# Altium schematic symbol library MySCH_Lib.SCHLIB: 47 symbols
Pins are listed as number, name and electrical type; pins without a type are passive.

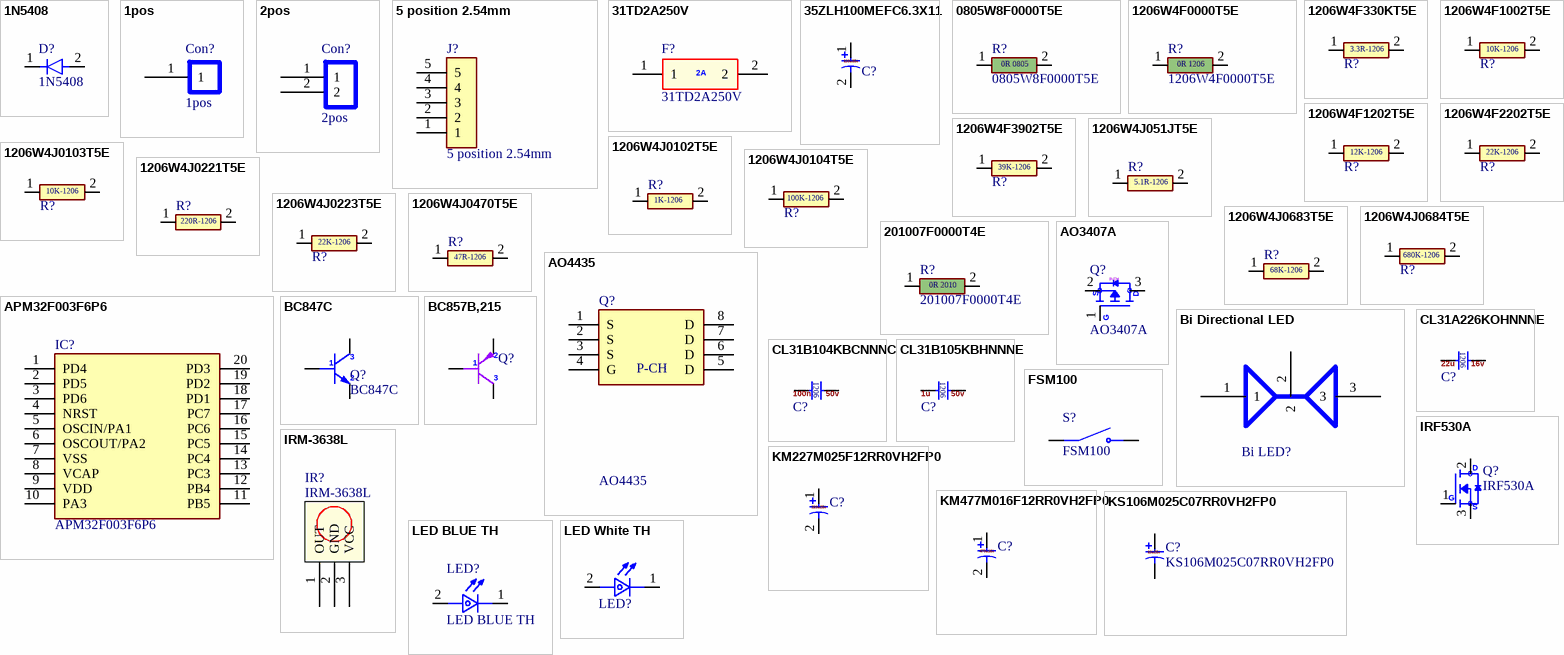
[diagram p0: symbols 1N5408 to LED White TH]

## 1N5408
designator D?
DIODE: GEN 3A 1.2V@3A 1kV DO-201AD TH; LCSC Part #: C36138; Unit Price: 0.0313
footprint DO-201AD TH
pins: 1, 2

## 1pos
designator Con?
footprint 1pos (Footprint not found)
footprint 1pos - thin
pins: 1

## 2pos
designator Con?
P2.54mm
footprint 2pos
pins: 1, 2

## 5 position 2.54mm
designator J?
MP: BG095-04-A-N-D; Package: None; Price: None; Value: *; Availability: Unavailable
footprint 5pos_2.54mm
pins: 1, 2, 3, 4, 5

## 31TD2A250V
designator F?
FUSE:  2A Plugin,3.6x10mm Disposable fuses ROHS; LCSC Part #: C529609; Unit Price: 0.0199
footprint Fuse FAN LS-15.8MM (31TD2A250V)
pins: 1, 2
text: 2A

## 35ZLH100MEFC6.3X11
designator C?  (value not drawn)
CAP: 100uF 20% 25V RADIAL TH / LS-2.5mm D6.3xL11mm; LCSC Part #: C109392; Unit Price: 0.0609
footprint CAP LS-2.5mm D6.3 H7
pins: 1, 2
text: 100u35v

## 0805W8F0000T5E
designator R?
RES: 0R JUMPER 1/4W 0805; LCSC Part #: C17477
footprint R0805
pins: 1, 2
text: 0R 0805

## 1206W4F0000T5E
designator R?
RES: 0R JUMPER 1/4W 1206; LCSC Part #: C17888
footprint 1206-RES
pins: 1, 2
text: 0R 1206

## 1206W4F330KT5E
designator R?  (value not drawn)
RES: 3.3 OHM 1% 1/4W 1206; LCSC Part #: C17945; Unit Price: 0.0024
footprint 1206-RES
pins: 1, 2
text: 3.3R-1206

## 1206W4F1002T5E
designator R?  (value not drawn)
RES: 10K OHM 1% 1/4W 1206; LCSC Part #: C17902; Unit Price: 0.0015
footprint 1206-RES
pins: 1, 2
text: 10K-1206

## 1206W4F1202T5E
designator R?  (value not drawn)
RES: 12K OHM 1% 1/4W 1206; LCSC Part #: C17912; Unit Price: 0.0016
footprint 1206-RES
pins: 1, 2
text: 12K-1206

## 1206W4F2202T5E
designator R?  (value not drawn)
RES: 22K OHM 1% 1/4W 1206; LCSC Part #: C25830; Unit Price: 0.0016
footprint 1206-RES
pins: 1, 2
text: 22K-1206

## 1206W4F3902T5E
designator R?  (value not drawn)
RES: 39K OHM 1% 1/4W 1206; LCSC Part #: C18008; Unit Price: 0.0017
footprint 1206-RES
pins: 1, 2
text: 39K-1206

## 1206W4J051JT5E
designator R?  (value not drawn)
RES: 5.1 OHM 5% 1/4W 1206; LCSC Part #: C37912; Unit Price: 0.0018
footprint 1206-RES
pins: 1, 2
text: 5.1R-1206

## 1206W4J0102T5E
designator R?  (value not drawn)
RES: 1K OHM 5% 1/4W 1206; LCSC Part #: C1469; Unit Price: 0.0012
footprint 1206-RES
pins: 1, 2
text: 1K-1206

## 1206W4J0103T5E
designator R?  (value not drawn)
RES: 10K OHM 5% 1/4W 1206; LCSC Part #: C1489; Unit Price: 0.0012
footprint 1206-RES
pins: 1, 2
text: 10K-1206

## 1206W4J0104T5E
designator R?  (value not drawn)
RES: 100K OHM 5% 1/4W 1206; LCSC Part #: C25647; Unit Price: 0.0011
footprint 1206-RES
pins: 1, 2
text: 100K-1206

## 1206W4J0221T5E
designator R?  (value not drawn)
RES: 220 OHM 5% 1/4W 1206; LCSC Part #: C25363; Unit Price: 0.0012
footprint 1206-RES
pins: 1, 2
text: 220R-1206

## 1206W4J0223T5E
designator R?  (value not drawn)
RES: 22K OHM 5% 1/4W 1206; LCSC Part #: C25654; Unit Price: 0.0011
footprint 1206-RES
pins: 1, 2
text: 22K-1206

## 1206W4J0470T5E
designator R?  (value not drawn)
RES: 47R OHM 5% 1/4W 1206; LCSC Part #: C25384; Unit Price: 0.0012
footprint 1206-RES
pins: 1, 2
text: 47R-1206

## 1206W4J0683T5E
designator R?  (value not drawn)
RES: 68K OHM 5% 1/4W 1206; LCSC Part #: C25668; Unit Price: 0.0011
footprint 1206-RES
pins: 1, 2
text: 68K-1206

## 1206W4J0684T5E
designator R?  (value not drawn)
RES: 680K OHM 5% 1/4W 1206; LCSC Part #: C47469; Unit Price: 0.0012
footprint 1206-RES
pins: 1, 2
text: 680K-1206

## 201007F0000T4E
designator R?
RES: 0R JUMPER 3/4W 2010; LCSC Part #: C270974
footprint 2010-RES
pins: 1, 2
text: 0R 2010

## AO3407A
designator Q?
MOSFET: P-CH 30V 4.2A 1.4W 1.8V@250uA 1 P-Channel SOT-23 MOSFETs ROHS; LCSC Part #: C347478; Unit Price: 0.0156
footprint SOT-23-3
pins: 1 G, 2 S, 3 D
text: P-CH

## AO4435
designator Q?
MOSFET P-CH 30V 12A SOP-8; LCSC Part #: C2944310
footprint SOIC-8N
pins: 1 S, 2 S, 3 S, 4 G, 5 D, 6 D, 7 D, 8 D
text: P-CH

## APM32F003F6P6
designator IC?
MCU: 32KB ARM-MSeries 4KB 32KB TSSOP-20 Microcontroller Units (MCUs/MPUs/SOCs) ROHS; LCSC Part #: C22388660
footprint TSSOP-20
pins: 1 PD4, 2 PD5, 3 PD6, 4 NRST, 5 OSCIN/PA1, 6 OSCOUT/PA2, 7 VSS (power), 8 VCAP, 9 VDD (power), 10 PA3, 11 PB5, 12 PB4, 13 PC3, 14 PC4, 15 PC5, 16 PC6, 17 PC7, 18 PD1, 19 PD2, 20 PD3

## BC847C
designator Q?
Transistor: 45V 420@2mA,5V 100mA NPN SOT-23 Bipolar (BJT) ROHS; LCSC Part #: C181141; Unit Price: 0.004
footprint SOT-23-3
pins: 1 B, 2 E, 3 C

## BC857B,215
designator Q?  (value not drawn)
Transistor: 45V 250mW 220@2mA,5V 100mA PNP SOT-23 / Nexperia; LCSC Part #: C59205; Unit Price: 0.0048
footprint SOT-23-3
pins: 1 B, 2 E, 3 C

## Bi Directional LED
designator Bi LED?  (value not drawn)
LED: LS-2.54mm, LED dia-3mm, 2 color LED, 3 Pin
footprint Bi_directional_led N (Bi_directional_led)
pins: 1, 2, 3

## CL31A226KOHNNNE
designator C?  (value not drawn)
CAP: CER 22UF 16V X5R 1206; LCSC Part #: C90146; Unit Price: 0.0178
footprint 1206-CAP
pins: 1, 2
text: 1206; 22u; 16v

## CL31B104KBCNNNC
designator C?  (value not drawn)
CAP: CER 100NF 50V X7R 1206; LCSC Part #: C24497; Unit Price: 0.0071
footprint 1206-CAP
pins: 1, 2
text: 1206; 100n; 50v

## CL31B105KBHNNNE
designator C?  (value not drawn)
CAP: CER 1UF 50V X7R 1206; LCSC Part #: C1848; Unit Price: 0.0104
footprint 1206-CAP
pins: 1, 2
text: 1206; 1u; 50v

## FSM100
designator S?
Alcoswitch FSM100-104, Tactile Switches, Round Actuator Style, Operating Function NO, Brass Contact Base Material; LCSC Part #: C6252471
footprint SW_1437565-2
pins: 1 COM, 2 COM, 3 NO, 4 NO

## IRF530A
designator Q?
MOSFET: N-CH 100V 14A TO-220; LCSC Part #: C274639; Unit Price: 0.2595
footprint TO-220
pins: 1 G, 2 D, 3 S

## IRM-3638L
designator IR?
IR: 6m 330uA 2.7V~5.5V SIP-3-2.54mm Infrared Remote Receiver (IRM) ROHS; LCSC Part #: C2936550
footprint IRM 3638L
pins: 1 OUT, 2 GND, 3 VCC

## KM227M025F12RR0VH2FP0
designator C?  (value not drawn)
CAP: AlEl 220UF 20% 25V RADIAL TH / LS-3.5mm D8xL12mm; LCSC Part #: C43837; Unit Price: 0.0149
footprint CAP LS-3.5mm D8 H11 (CAP LS-3.5mm D8)
pins: 1, 2
text: 220u25v

## KM477M016F12RR0VH2FP0
designator C?  (value not drawn)
CAP: AlEl 470UF 20% 16V RADIAL TH / LS 3.5mm, D8xL12mm; LCSC Part #: C28067; Unit Price: 0.0151
footprint CAP LS-3.5mm D8 H11 (CAP LS-3.5mm D8)
pins: 1, 2
text: 470u16v

## KS106M025C07RR0VH2FP0
designator C?
CAP: AlEl 10UF 20% 25V RADIAL TH / LS 1.5mm D4xL7; LCSC Part #: C43351; Unit Price: 0.0057
footprint CAP LS-1.5mm D4 H5
pins: 1, 2
text: 10u25v

## LED BLUE TH
designator LED?
LED: BLUE, Through Hole, T-1 3/4 (5mm), 30 mA, 2.1 V, 635 nm
footprint LED_5mm P5MM
pins: 1, 2

## LED White TH
designator LED?  (value not drawn)
LED: White, Through Hole, T-1 3/4 (5mm), 30 mA, 2.1V / LS-5MM; LCSC Part #: C7470709
footprint LED_5mm P5MM WHITE
pins: 1, 2

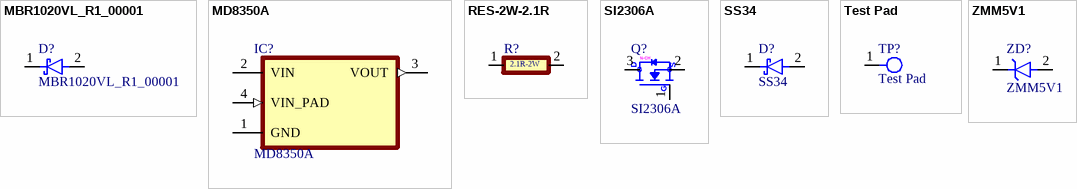
[diagram p1: symbols MBR1020VL_R1_00001 to ZMM5V1]

## MBR1020VL_R1_00001
designator D?
DIODE: 20V 340mV@1A 1A SOD-123FL Schottky Diodes ROHS; LCSC Part #: C391533; Unit Price: 0.0549
footprint SOD-123F-2 (SODFL3617X108N)
pins: 1, 2

## MD8350A
designator IC?
LDO: 300mA SOT-89-3 Voltage Regulators - Linear, Low Drop Out (LDO); LCSC Part #: C1884527; Unit Price: 0.0666
footprint SOT89R
pins: 1 GND, 2 VIN (power), 3 VOUT, 4 VIN_PAD

## RES-2W-2.1R
designator R?, comment RES-2W-2.1RRES-3W-5.1R  (value not drawn)
RES: 2.1 OHM 1% 2W TH
footprint Res_TH 3W
pins: 1, 2
text: 2.1R-2W

## SI2306A
designator Q?
MOSFET: N-CH 30V 4A 1.25W 35mΩ@10V 3V@250uA 1 N-Channel SOT-23 MOSFETs ROHS; LCSC Part #: C347489; Unit Price: 0.0155
footprint SOT-23-3
pins: 1 G, 2 S, 3 D
text: N-CH

## SS34
designator D?
DIODE: SCHOTTKY 40V 3A / DO-214AC(SMA); LCSC Part #: C8678; Unit Price: 0.0126
footprint SMA (DO-214AC)
pins: 1, 2

## Test Pad
designator TP?
TESTPAD: Test Pad
footprint Test Pad FP (Footprint not found)
pins: 1

## ZMM5V1
designator ZD?
500mW 5.1V / FP: LL-34, DO-213AC, MINI-MELF, SOD-80; LCSC Part #: C5345992; Unit Price: 0.003
footprint LL-34, DO-213AC, MINI-MELF, SOD-80
pins: 1, 2